# Altium footprint library TGIS_Power.PcbLib: 6 footprints
Each footprint in its own frame and in the unit in brackets; x right, y up, seen from the top. Pads: shape width x height; smd on the part's side, far side on the other; paste and mask are expansions set on the pad; w line width, h text height; cw(c..) or ccw(c..) is an arc to the next point about the centre after c.
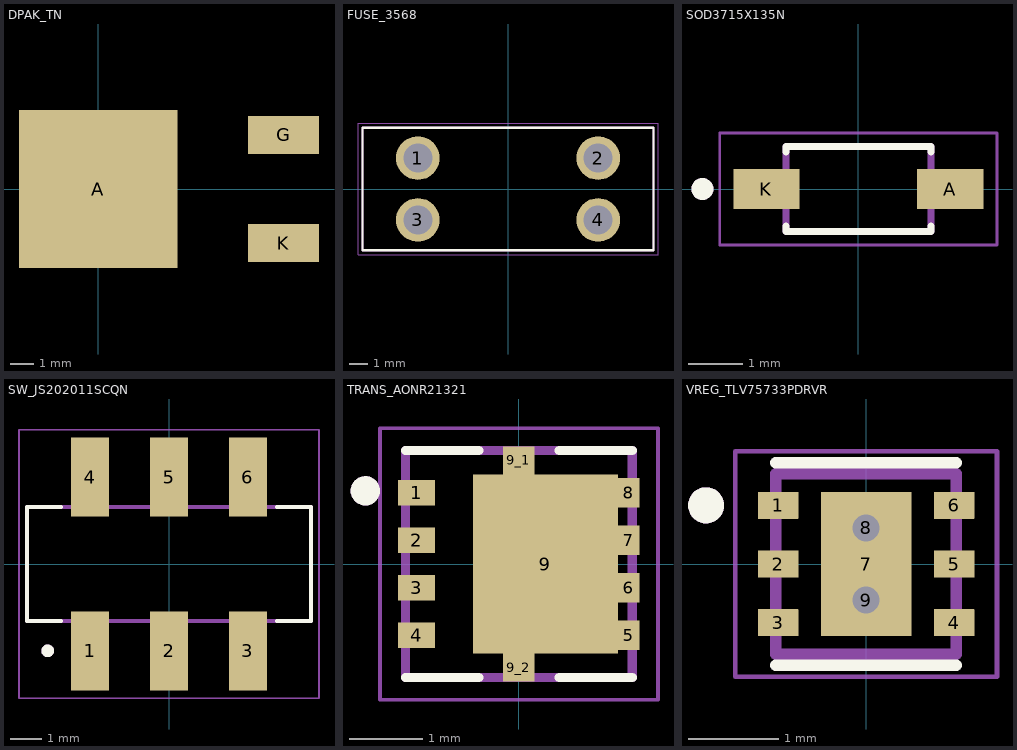
[diagram p0: the footprints below, top view; thin cyan lines are the x and y axes]

## DPAK_TN [mm]
pads (3):
  rect 6.7x6.7 smd: A(0,0)
  rect 3x1.6 smd: G(7.85,2.286) K(7.85,-2.286)
3D body "TO-252AA-Vishay.stp": height 2.39, standoff 0, extent -2.707,-3.356 7.707,3.356

## FUSE_3568 [mm]
height 7.37
pads (4):
  round 2.4 hole 1.6: 1(-4.96,1.7) 2(4.96,1.7) 3(-4.96,-1.7) 4(4.96,-1.7)
Top Overlay:
  lines w0.127: -8,-3.365 8,-3.365 8,3.365 -8,3.365 -8,-3.365
Mechanical 13:
  lines w0.127: -8,-3.365 8,-3.365 8,3.365 -8,3.365 -8,-3.365
Mechanical 15:
  lines w0.05: -8.25,-3.615 8.25,-3.615 8.25,3.615 -8.25,3.615 -8.25,-3.615
3D body "Fuse - mini 4A.step": height 16.21, standoff 0.01, extent -5.5,-1.95 5.5,1.95
3D body "3568--3DModel-STEP-630548.STEP": height 7.38, standoff -2.78, extent -7.958,-3.299 8.044,3.432

## SOD3715X135N [mm]
pads (2):
  rect 1.21x0.73 smd: A(1.68,0) K(-1.68,0)
Top Overlay:
  circle w0.2: c-2.85,0 r0.1
  lines w0.127: -1.325,-0.679 -1.325,-0.775 1.325,-0.775 1.325,-0.679 ; -1.325,0.679 -1.325,0.775 1.325,0.775 1.325,0.679
Mechanical 13:
  circle w0.2: c-2.85,0 r0.1
  lines w0.127: -1.325,-0.775 1.325,-0.775 1.325,0.775 -1.325,0.775 -1.325,-0.775
Mechanical 15:
  lines w0.05: -2.535,-1.025 2.535,-1.025 2.535,1.025 -2.535,1.025 -2.535,-1.025
3D body "step_temp.STEP": height 1.36, standoff -0.09, extent -1.825,-0.775 1.825,0.775

## SW_JS202011SCQN [mm]
pads (6):
  rect 1.2x2.5 smd: 1(-2.5,-2.75) 2(0,-2.75) 3(2.5,-2.75) 4(-2.5,2.75) 5(0,2.75) 6(2.5,2.75)
Top Overlay:
  circle w0.2: c-3.84,-2.75 r0.1
  lines w0.127: -3.42,-1.8 -4.5,-1.8 -4.5,1.8 -3.42,1.8 ; 3.42,-1.8 4.5,-1.8 4.5,1.8 3.42,1.8
Mechanical 13:
  circle w0.2: c-3.84,-2.75 r0.1
  lines w0.127: -4.5,-1.8 4.5,-1.8 4.5,1.8 -4.5,1.8 -4.5,-1.8
Mechanical 15:
  lines w0.05: -4.75,-4.25 -4.75,4.25 4.75,4.25 4.75,-4.25 -4.75,-4.25
3D body "JS202011SCQN--3DModel-STEP-269445.STEP": height 5.52, standoff 0.01, extent -4.496,-3.746 4.496,3.746

## TRANS_AONR21321 [mm]
pads (11):
  rect 0.5x0.35 smd: 1(-1.4,0.975) 2(-1.4,0.325) 3(-1.4,-0.325) 4(-1.4,-0.975)
  rect 0.3x0.4 smd: 5(1.5,-0.975) 6(1.5,-0.325) 7(1.5,0.325) 8(1.5,0.975)
  rect 1.98x2.45 smd paste-2: 9(0.36,0)
  rect 0.43x0.38 smd: 9_1(0,1.415) 9_2(0,-1.415)
Top Overlay:
  circle w0.2: c-2.1,1 r0.1
  lines w0.127: -1.55,-1.55 -0.55,-1.55 ; -1.55,1.55 -0.55,1.55 ; 0.55,-1.55 1.55,-1.55 ; 0.55,1.55 1.55,1.55
Top Paste:
  region: 1.024,-0.822 -0.304,-0.822 -0.304,0.822 1.024,0.822
Mechanical 13:
  circle w0.2: c-2.1,1 r0.1
  lines w0.127: -1.55,-1.55 1.55,-1.55 1.55,1.55 -1.55,1.55 -1.55,-1.55
Mechanical 15:
  lines w0.05: -1.9,-1.855 1.9,-1.855 1.9,1.855 -1.9,1.855 -1.9,-1.855
3D body "step_temp.STEP": height 0.9, standoff 0, extent -1.6,-1.55 1.6,1.55

## VREG_TLV75733PDRVR [mm]
pads (9):
  rrect5% 0.45x0.3 smd: 1(-0.975,0.65) 2(-0.975,0) 3(-0.975,-0.65) 4(0.975,-0.65) 5(0.975,0) 6(0.975,0.65)
  rect 1x1.6 smd paste-2: 7(0,0)
  round 0.452 hole 0.3 mask+0: 8(0,0.4) 9(0,-0.4)
Top Overlay:
  circle w0.2: c-1.775,0.65 r0.1
  lines w0.127: -1,-1.12 1,-1.12 ; -1,1.12 1,1.12
Top Paste:
  region: 0.5,0.1 -0.5,0.1 -0.5,0.8 0.5,0.8
  region: 0.5,-0.8 -0.5,-0.8 -0.5,-0.1 0.5,-0.1
Mechanical 13:
  circle w0.2: c-1.775,0.65 r0.1
  lines w0.127: -1,-1 -1,1 1,1 1,-1 -1,-1
Mechanical 15:
  lines w0.05: -1.45,-1.25 1.45,-1.25 1.45,1.25 -1.45,1.25 -1.45,-1.25
3D body "step_temp.STEP": height 0.8, standoff 0, extent -1,-1 1,1